# Altium footprint library TrashTrack_FOOTPRINT_LIB.PcbLib: 26 footprints (part 1 of 2)
Each footprint in its own frame and in the unit in brackets; x right, y up, seen from the top. Pads: shape width x height; smd on the part's side, far side on the other; paste and mask are expansions set on the pad; w line width, h text height; cw(c..) or ccw(c..) is an arc to the next point about the centre after c.
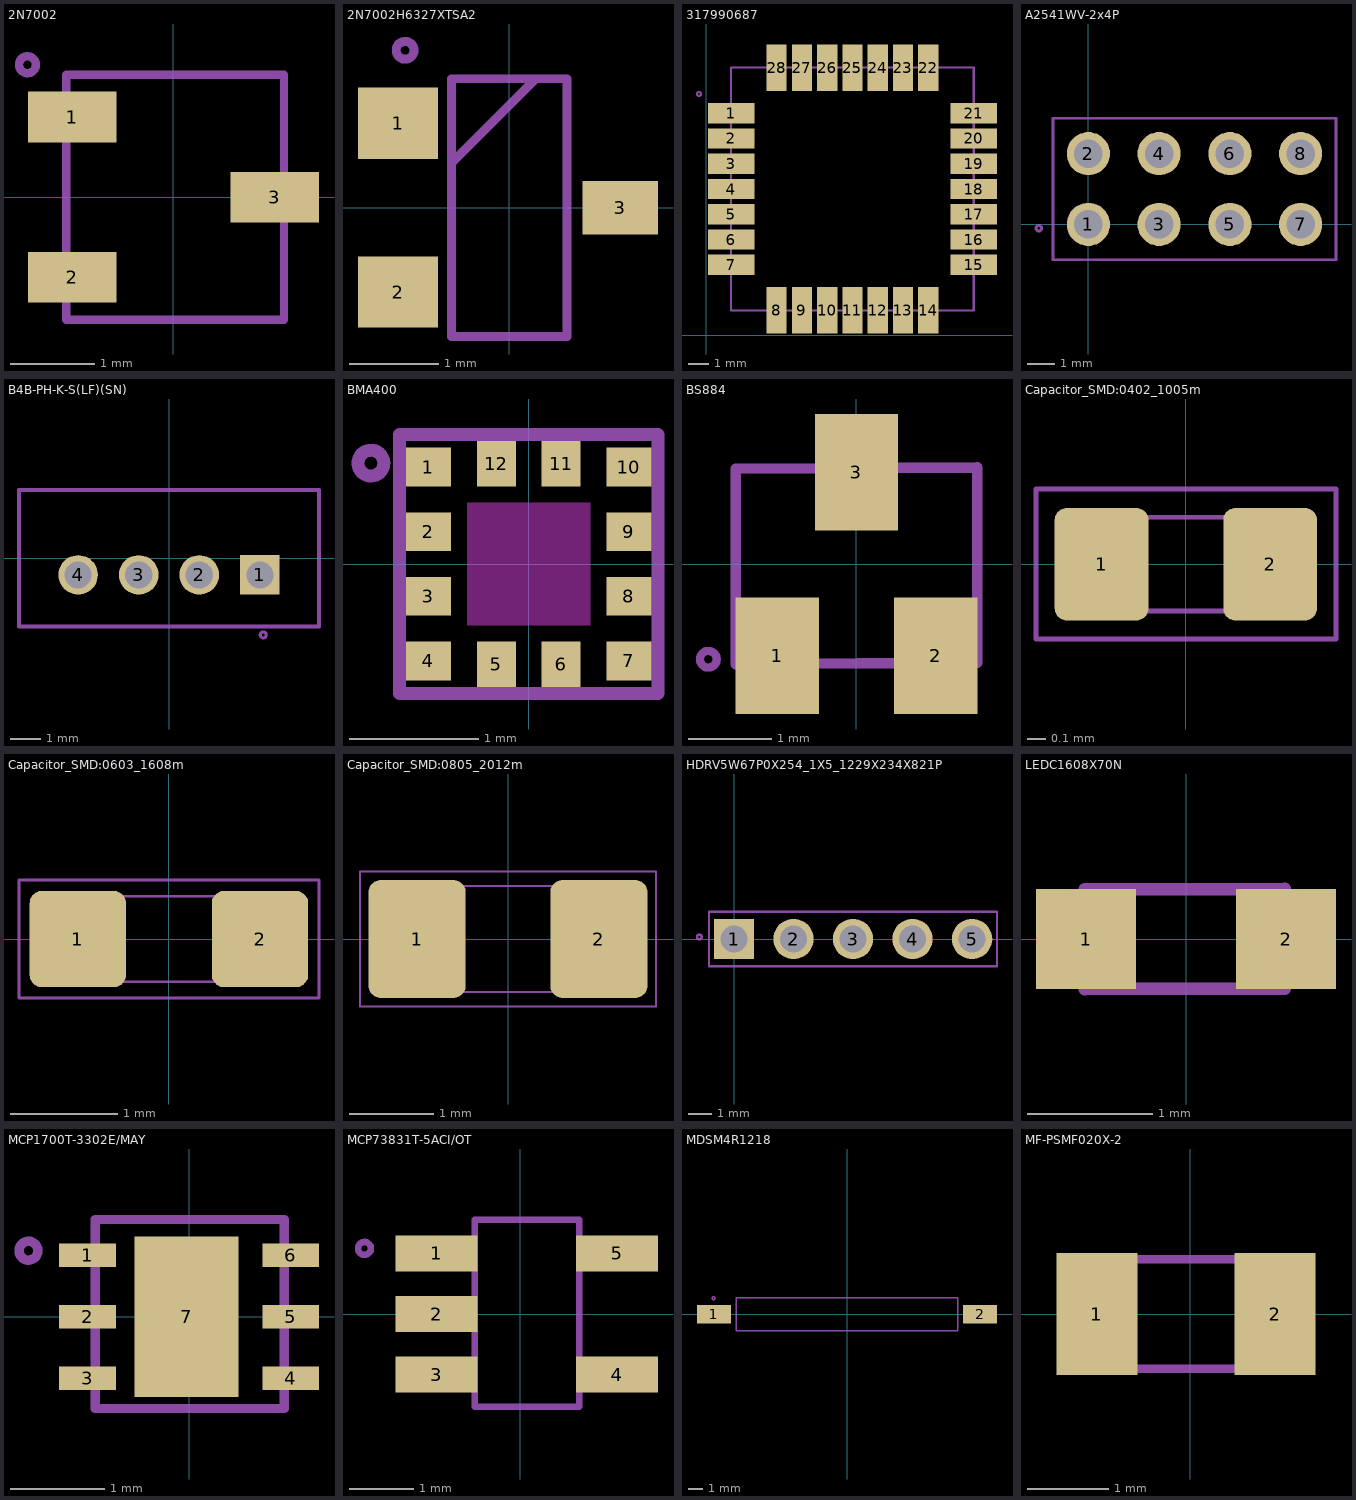
[diagram p0: the footprints below, top view; thin cyan lines are the x and y axes]

## 2N7002 [mm]
pads (3):
  rect 1.05x0.6 smd: 1(-1.2,0.95) 2(-1.2,-0.95) 3(1.2,0)
Top Assembly:
  circle w0.1: c-1.73,1.57 r0.1
  lines w0.1: -1.27,-1.45 -1.27,1.45 1.31,1.45 1.31,-1.45 -1.27,-1.45
  text ".Designator" at -1.06,-0.06 h0.3
3D body "2N7002.stp": height 1.1, standoff 0, extent -1.28,-1.45 1.32,1.45

## 2N7002H6327XTSA2 [mm]
pads (3):
  rect 0.9x0.8 smd: 1(-1.25,0.95) 2(-1.25,-0.95)
  rect 0.85x0.6 smd: 3(1.25,0)
Top Assembly:
  circle w0.1: c-1.17,1.77 r0.1
  lines w0.1: -0.65,0.5 0.3,1.45 ; -0.65,-1.45 0.65,-1.45 0.65,1.45 -0.65,1.45 -0.65,-1.45
  text ".Designator" at -1.66,-0.127 h0.4
3D body "2N7002H6327XTSA2.stp": height 1.1, standoff 0, extent -1.16,-1.53 1.24,1.37

## 317990687 [mm]
pads (28):
  rect 2.3x1 smd mask+0.075: 1(1.239,10.989) 2(1.239,9.739) 3(1.239,8.489) 4(1.239,7.239) 5(1.239,5.989) 6(1.239,4.739) 7(1.239,3.489) 15(13.239,3.489) 16(13.239,4.739) 17(13.239,5.989) 18(13.239,7.239) 19(13.239,8.489) 20(13.239,9.739) 21(13.239,10.989)
  rect 1x2.3 smd mask+0.075: 8(3.489,1.239) 9(4.739,1.239) 10(5.989,1.239) 11(7.239,1.239) 12(8.489,1.239) 13(9.739,1.239) 14(10.989,1.239) 22(10.989,13.239) 23(9.739,13.239) 24(8.489,13.239) 25(7.239,13.239) 26(5.989,13.239) 27(4.739,13.239) 28(3.489,13.239)
Top Assembly:
  circle w0.1: c-0.35,11.94 r0.1
  lines w0.1: 1.239,1.239 1.239,13.239 13.239,13.239 13.239,1.239 1.239,1.239
  text ".Designator" at 5.27,8.013 h0.4
3D body "QFN_90687_SEE.step": height 2.49, standoff 0, extent 0.089,0.089 14.389,14.389

## A2541WV-2x4P [mm]
pads (8):
  round 1.55 hole 1.02: 1(0,0) 2(0,2.54) 3(2.54,0) 4(2.54,2.54) 5(5.08,0) 6(5.08,2.54) 7(7.62,0) 8(7.62,2.54)
Top Assembly:
  circle w0.1: c-1.78,-0.14 r0.1
  lines w0.1: -1.27,-1.27 8.89,-1.27 8.89,3.81 -1.27,3.81 -1.27,-1.27
  text ".Designator" at 2.35,1.033 h0.4
3D body "TSW-104-07-T-D.stp": height 8.38, standoff -2.54, extent -1.27,-1.27 8.89,3.81

## B4B-PH-K-S(LF)(SN) [mm]
pads (4):
  rect 1.308x1.308 / inner round 1.308 / far side rect 1.308x1.308 hole 0.9: 1(3,-0.55)
  round 1.308 hole 0.9: 2(1,-0.55) 3(-1,-0.55) 4(-3,-0.55)
Top Assembly:
  circle w0.1: c3.11,-2.53 r0.1
  lines w0.127: -4.95,-2.25 4.95,-2.25 ; -4.95,-2.25 -4.95,2.25 ; -4.95,-2.25 -4.95,2.25 ; -4.95,-2.25 4.95,-2.25 ; -4.95,2.25 4.95,2.25 ; -4.95,2.25 4.95,2.25 ; 4.95,-2.25 4.95,2.25
  text ".Designator" at -1.89,0.723 h0.4
3D body "step_temp.STEP": height 6, standoff -3.4, extent -4.95,-2.25 4.95,2.25

## BMA400 [mm]
pads (12):
  rect 0.35x0.3 smd paste-0.025 mask+0.05: 1(-0.775,0.75) 2(-0.775,0.25) 3(-0.775,-0.25) 4(-0.775,-0.75) 7(0.775,-0.75) 8(0.775,-0.25) 9(0.775,0.25) 10(0.775,0.75)
  rect 0.3x0.35 smd paste-0.025 mask+0.05: 5(-0.25,-0.775) 6(0.25,-0.775) 11(0.25,0.775) 12(-0.25,0.775)
Keep-Out Layer:
  region: 0.475,-0.475 -0.475,-0.475 -0.475,0.475 0.475,0.475
Top Assembly:
  circle w0.1: c-1.22,0.78 r0.1
  lines w0.1: -1,-1 -1,1 1,1 1,-1 -1,-1
  text ".Designator" at -0.57,-0.057 h0.4
3D body "step_temp.STEP": height 1, standoff 0, extent -1,-1 1,1

## BS884 [mm] "PMOS"
pads (3):
  rect 1x1.4 smd paste+0 mask+0.102: 1(-0.95,-1.1) 2(0.95,-1.1) 3(0,1.1)
Top Assembly:
  circle w0.1: c-1.778,-1.143 r0.1
  lines w0.127: 1.451,1.158 1.451,-1.185 -1.451,-1.2 -1.451,1.143 1.451,1.158
  text ".Designator" at -1.093,-0.104 h0.3
3D body "step_temp.STEP": height 1.11, standoff 0, extent -1.45,-1.2 1.45,1.2

## Capacitor_SMD:0402_1005m [mm] "Generic SMD capacitor. Size 0402 (1005 metric)"
pads (2):
  rrect25% 0.5x0.6 smd mask+0.05: 1(-0.45,0) 2(0.45,0)
Top Assembly:
  lines w0.025: -0.5,-0.25 -0.5,0.25 0.5,0.25 0.5,-0.25 -0.5,-0.25
  text ".Designator" at -0.45,-0.1 h0.3
Mechanical 10:
  lines w0.025: -0.8,-0.4 -0.8,0.402 0.802,0.402 0.802,-0.4 -0.8,-0.4
3D body "Capacitor_SMD_0402_1005m.step": height 0.55, standoff 0, extent -0.5,-0.25 0.5,0.25

## Capacitor_SMD:0603_1608m [mm] "Generic SMD capacitor. Size 0603 (1608 metric)"
pads (2):
  rrect25% 0.9x0.9 smd mask+0.05: 1(-0.85,0) 2(0.85,0)
Top Assembly:
  lines w0.025: -0.8,-0.4 -0.8,0.4 0.8,0.4 0.8,-0.4 -0.8,-0.4
  text ".Designator" at -0.6,-0.075 h0.3
Mechanical 10:
  lines w0.025: -1.4,-0.55 -1.4,0.551 1.401,0.551 1.401,-0.55 -1.4,-0.55
3D body "Capacitor_SMD_0603_1608m.step": height 0.9, standoff 0, extent -0.8,-0.4 0.8,0.4

## Capacitor_SMD:0805_2012m [mm] "Generic SMD capacitor. Size 0805 (2012 metric)"
pads (2):
  rrect25% 1.15x1.4 smd mask+0.05: 1(-1.075,0) 2(1.075,0)
Top Assembly:
  lines w0.025: -1,-0.625 1,-0.625 1,0.625 -1,0.625 -1,-0.625
  text ".Designator" at -0.458,-0.104 h0.3
Mechanical 10:
  lines w0.025: -1.75,-0.8 -1.75,0.8 1.75,0.8 1.75,-0.8 -1.75,-0.8
3D body "Capacitor_SMD_0805_2012m.STEP": height 1.35, standoff 0, extent -1,-0.625 1,0.625

## HDRV5W67P0X254_1X5_1229X234X821P [mm]
pads (5):
  rect 1.725x1.725 / inner round 1.725 / far side rect 1.725x1.725 hole 1.15: 1(0,0)
  round 1.725 hole 1.15: 2(2.54,0) 3(5.08,0) 4(7.62,0) 5(10.16,0)
Top Assembly:
  circle w0.1: c-1.48,0.09 r0.1
  lines w0.1: -1.065,-1.17 -1.065,1.17 11.225,1.17 11.225,-1.17 -1.065,-1.17
  text ".Designator" at 1.37,0.013 h0.4
3D body "5-146280-5.stp": height 5.84, standoff -5.33, extent -1.067,-1.168 11.227,1.168

## LEDC1608X70N [mm]
pads (2):
  rect 0.8x0.8 smd paste+0 mask+0.1: 1(-0.8,0)
  rect 0.8x0.8 smd: 2(0.8,0)
Top Assembly:
  lines w0.1: -0.81,-0.4 0.79,-0.4 0.79,0.4 -0.81,0.4 -0.81,-0.4
  text ".Designator" at -1.69,-0.107 h0.4
3D body "150060VS75000.stp": height 0.71, standoff 0.01, extent -0.8,-0.4 0.8,0.4

## MCP1700T-3302E/MAY [mm]
pads (7):
  rect 0.6x0.25 smd mask+0.05: 1(-1.075,0.65) 2(-1.075,0) 3(-1.075,-0.65) 4(1.075,-0.65) 5(1.075,0) 6(1.075,0.65)
  rect 1.1x1.7 smd mask+0.05: 7(-0.025,0)
Top Assembly:
  circle w0.1: c-1.7,0.7 r0.1
  lines w0.1: -0.995,-0.97 -0.995,1.03 1.005,1.03 1.005,-0.97 -0.995,-0.97
  text ".Designator" at -1.92,-0.027 h0.4
3D body "MCP1700T-3302E_MAY.stp": height 0.9, standoff 0, extent -1.044,-0.973 1.056,1.027

## MCP73831T-5ACI/OT [mil]
pads (5):
  rect 50x22 smd paste+0 mask+3.15: 1(-51,37) 2(-51,0) 3(-51,-37) 4(59.06,-37)
  rect 50x22 smd paste+0 mask+3.54: 5(59.06,37)
Top Assembly:
  circle w3.94: c-95,40 r3.94
  lines w3.94: -27.68,-56.69 35.83,-56.69 ; -27.68,-56.54 -27.68,57.48 35.83,57.48 ; 36.1,-56.54 36.1,57.48
  text ".Designator" at -18.03,0.9 h11.81
3D body "step_temp.STEP": height 57.09, standoff 0, extent -50.79,-56.69 59.45,57.48

## MDSM4R1218 [mm]
pads (2):
  rect 2.34x1.3 smd: 1(-9.17,0) 2(9.17,0)
Top Assembly:
  circle w0.1: c-9.2,1.11 r0.1
  lines w0.1: -7.62,-1.14 7.62,-1.14 7.62,1.14 -7.62,1.14 -7.62,-1.14
  text ".Designator" at -1.93,-0.157 h0.4
3D body "MDSM-4R-12-18.stp": height 2.54, standoff 0.01, extent -9.65,-1.133 9.65,1.14

## MF-PSMF020X-2 [mm]
pads (2):
  rect 1x1.5 smd: 1(-1.15,0)
  rect 1x1.5 smd mask+0.1: 2(1.05,0)
Top Assembly:
  lines w0.1: -1.075,-0.675 -1.075,0.675 1.075,0.675 1.075,-0.675 -1.075,-0.675
  text ".Designator" at -1.9,-0.227 h0.4
3D body "MF-PSMF020X-2.stp": height 0.85, standoff 0, extent -1.075,-0.675 1.075,0.675